# EAGLE library part ATMEGA328PB (library dooba)
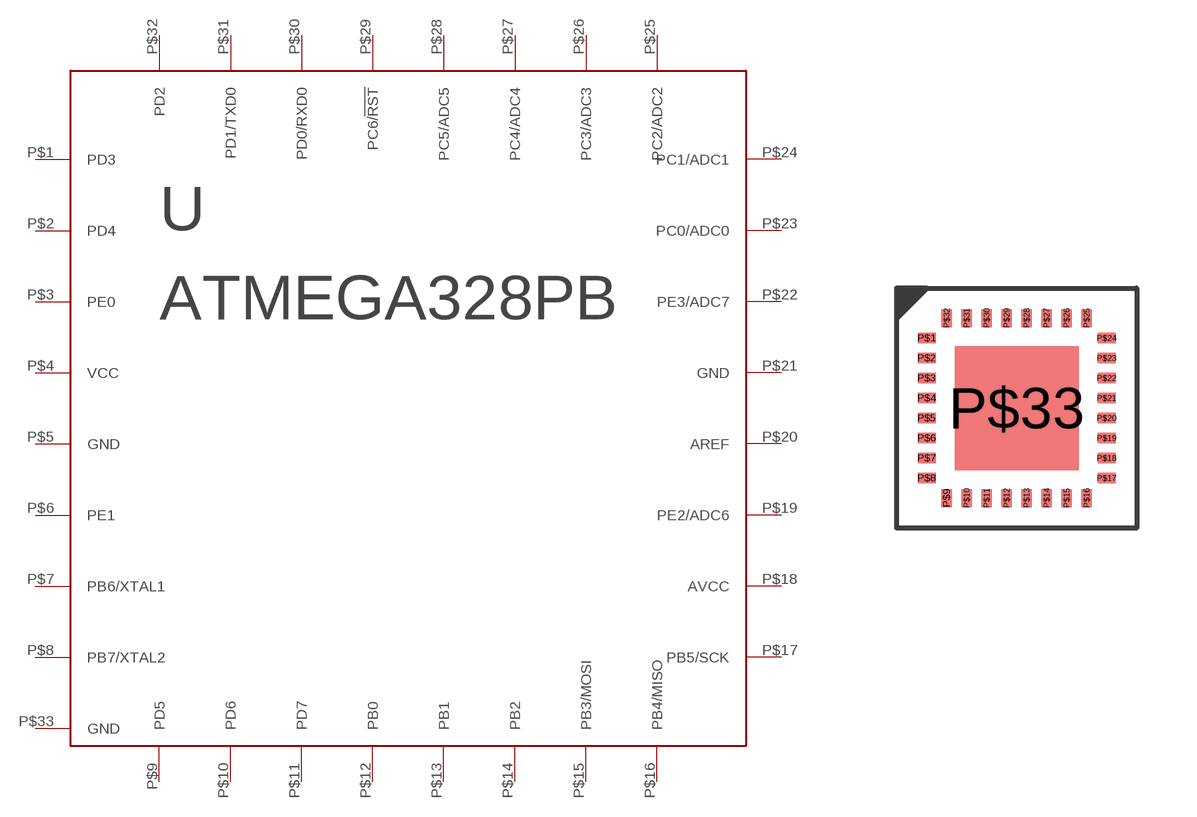
[diagram p11: symbol with the pads of 32-VQFN; footprint 32-VQFN]

Designator prefix U

## ATMEGA328PB32-VQFN  [32-VQFN]
P$1  PD3
P$2  PD4
P$3  PE0
P$4  VCC
P$5  GND
P$6  PE1
P$7  PB6/XTAL1
P$8  PB7/XTAL2
P$9  PD5
P$10  PD6
P$11  PD7
P$12  PB0
P$13  PB1
P$14  PB2
P$15  PB3/MOSI
P$16  PB4/MISO
P$17  PB5/SCK
P$18  AVCC
P$19  PE2/ADC6
P$20  AREF
P$21  GND
P$22  PE3/ADC7
P$23  PC0/ADC0
P$24  PC1/ADC1
P$25  PC2/ADC2
P$26  PC3/ADC3
P$27  PC4/ADC4
P$28  PC5/ADC5
P$29  PC6/!RST
P$30  PD0/RXD0
P$31  PD1/TXD0
P$32  PD2
P$33  GND

## Footprint 32-VQFN (pad centres in mm)
smd 0.45 x 0.26: P$1 -2.25,1.75; P$2 -2.25,1.25; P$3 -2.25,0.75; P$4 -2.25,0.25; P$5 -2.25,-0.25; P$6 -2.25,-0.75; P$7 -2.25,-1.25; P$8 -2.25,-1.75; P$17 2.25,-1.75; P$18 2.25,-1.25; P$19 2.25,-0.75; P$20 2.25,-0.25; P$21 2.25,0.25; P$22 2.25,0.75; P$23 2.25,1.25; P$24 2.25,1.75
smd 0.26 x 0.45: P$9 -1.75,-2.25; P$10 -1.25,-2.25; P$11 -0.75,-2.25; P$12 -0.25,-2.25; P$13 0.25,-2.25; P$14 0.75,-2.25; P$15 1.25,-2.25; P$16 1.75,-2.25; P$25 1.75,2.25; P$26 1.25,2.25; P$27 0.75,2.25; P$28 0.25,2.25; P$29 -0.25,2.25; P$30 -0.75,2.25; P$31 -1.25,2.25; P$32 -1.75,2.25
smd 3.1 x 3.1: P$33 0,0